# Altium footprint library SiLPA_HE.PcbLib: 129 footprints (part 4 of 9)
Each footprint in its own frame and in the unit in brackets; x right, y up, seen from the top. Pads: shape width x height; smd on the part's side, far side on the other; paste and mask are expansions set on the pad; w line width, h text height; cw(c..) or ccw(c..) is an arc to the next point about the centre after c.
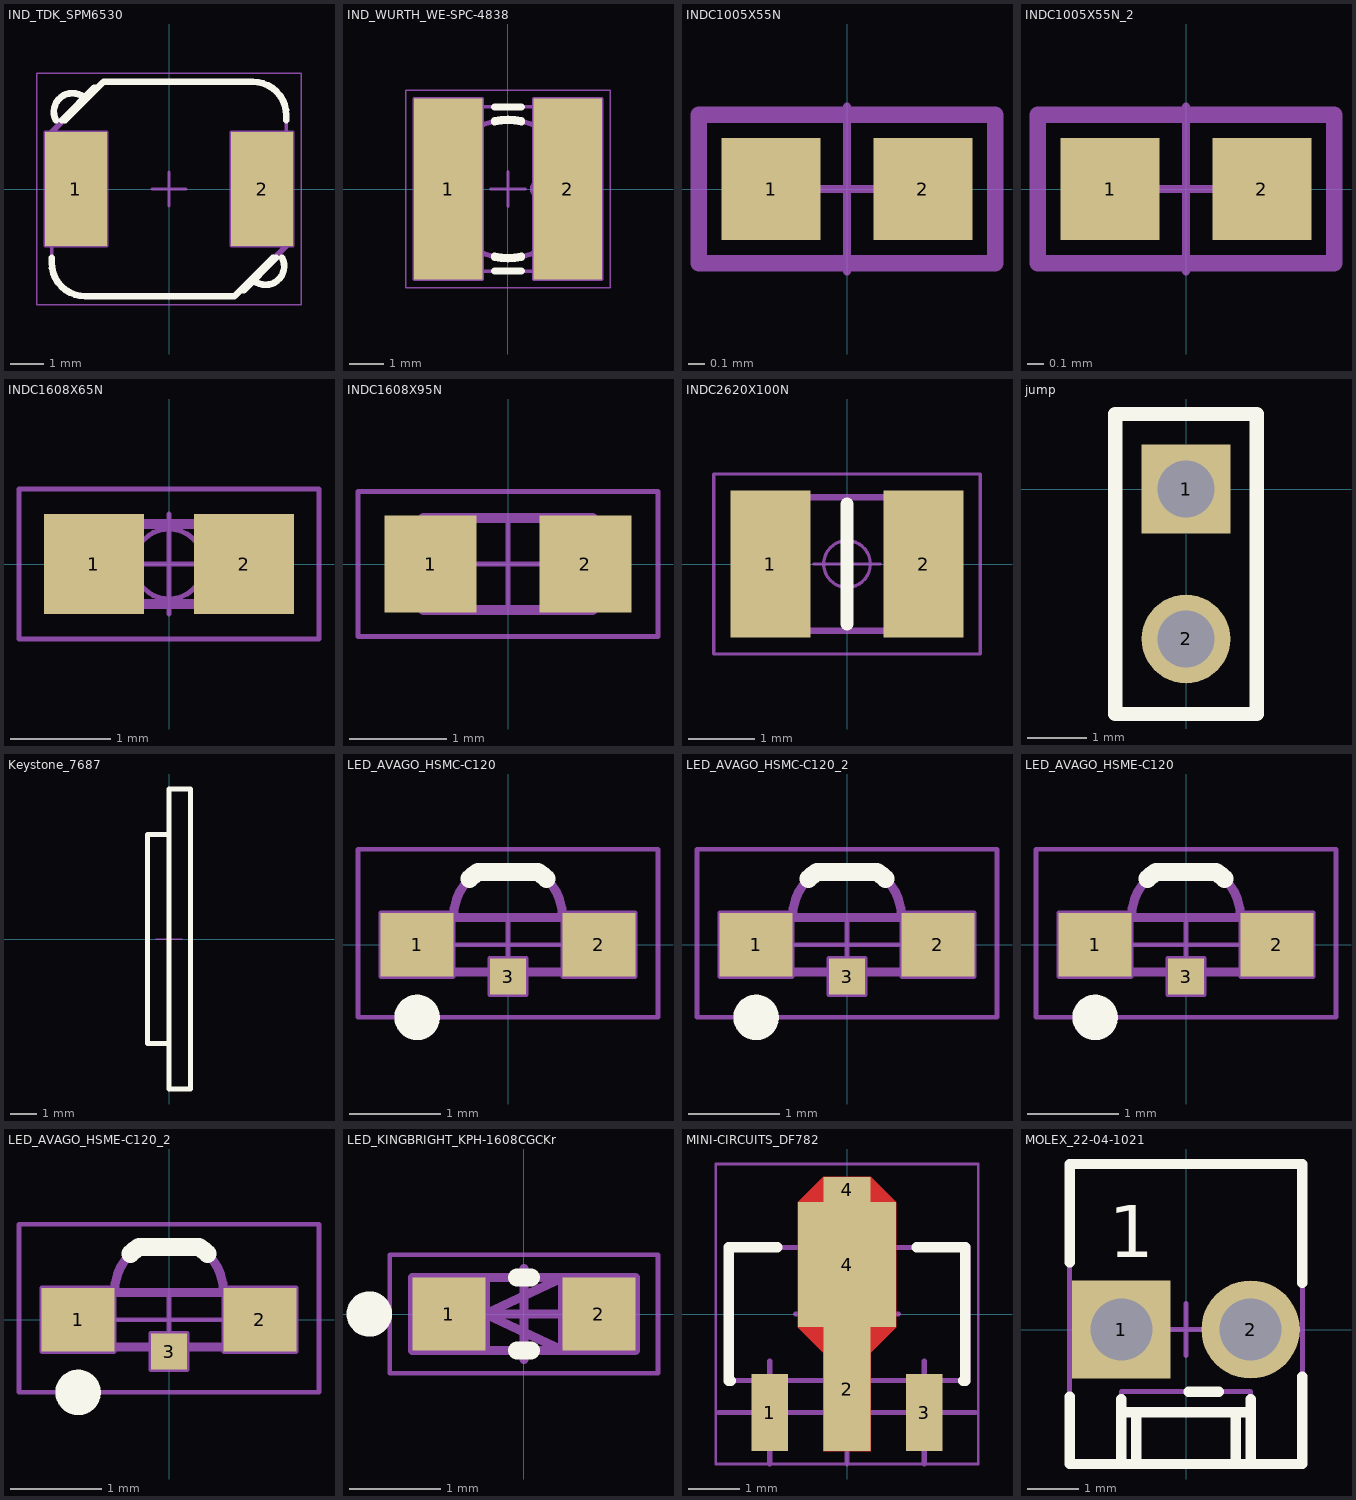
[diagram p3: the footprints below, top view; thin cyan lines are the x and y axes]

## IND_TDK_SPM6530 [mm] "SMD Inductor, 7.1mm L X 6.5mm W X 3mm H, TDK SPM6530 Series"
height 3
pads (2):
  rect 1.85x3.4 smd: 1(-2.775,0) 2(2.775,0)
Top Overlay:
  lines w0.2: -3.5,-2.05 -3.5,-2.2 ccw(c-2.5,-2.2) -2.5,-3.2 1.95,-3.2 3.1,-2.05 ; -3.373,2.05 cw(c-2.883,2.307) -2.532,2.733 -2.524,2.726 ; -3.2,2.05 -2.227,3.023 -2.127,3.023 ; -3.1,2.05 -1.95,3.2 2.5,3.2 cw(c2.5,2.2) 3.5,2.2 3.5,2.05 ; 2.127,-3.023 2.227,-3.023 3.2,-2.05 ; 2.524,-2.726 2.532,-2.733 ccw(c2.883,-2.307) 3.373,-2.05
Mechanical 8:
  lines w0.1: -3.275,0 -2.775,0 ; -2.775,-0.5 -2.775,0 ; -2.775,0.5 -2.775,0 ; -2.275,0 -2.775,0 ; -0.5,0 0,0 ; 0,-0.5 0,0 ; 0,0.5 0,0 ; 0.5,0 0,0 ; 2.275,0 2.775,0 ; 2.775,-0.5 2.775,0 ; 2.775,0.5 2.775,0 ; 3.275,0 2.775,0 ; -3.7,-1.7 -1.85,-1.7 -1.85,1.7 -3.7,1.7 -3.7,-1.7 ; 1.85,-1.7 1.85,1.7 3.7,1.7 3.7,-1.7 1.85,-1.7
Mechanical 14:
  lines w0.1: -3.5,-1.6 -3.6,-1.6 -3.6,1.65 ; -3.302,1.948 -3.309,1.955 cw(c-2.883,2.307) -2.532,2.733 -2.524,2.726 ; -2.127,3.023 -2.227,3.023 -3.6,1.65 ; 2.127,-3.023 2.227,-3.023 3.6,-1.65 ; 2.524,-2.726 2.532,-2.733 ccw(c2.883,-2.307) 3.309,-1.955 3.302,-1.948 ; 3.5,1.6 3.6,1.6 3.6,-1.65 ; -3.6,1.65 -3.5,1.65 ; -3.5,1.65 -3.5,0.9 -2.564,0.9 -2.564,1 cw(c-2.295,1) -2.025,1 -2.025,-1 cw(c-2.295,-1) -2.564,-1 -2.564,-0.9 -3.5,-0.9 -3.5,-2.2 ccw(c-2.5,-2.2) -2.5,-3.2 1.95,-3.2 3.5,-1.65 ; -3.5,1.65 -1.95,3.2 2.5,3.2 cw(c2.5,2.2) 3.5,2.2 3.5,0.9 2.564,0.9 2.564,1 ccw(c2.295,1) 2.025,1 2.025,-1 ccw(c2.295,-1) 2.564,-1 2.564,-0.9 3.5,-0.9 3.5,-1.65 ; 3.5,-1.65 3.6,-1.65
Mechanical 15:
  lines w0.05: -3.95,-3.45 -3.95,3.45 3.95,3.45 3.95,-3.45 -3.95,-3.45
3D body "IND_TDK_SPM6530.stp": height 3.1, standoff 0, extent -3.6,-3.2 3.6,3.2

## IND_WURTH_WE-SPC-4838 [mm] "SMD Inductor, Body 4.8x4.8mm"
height 9.1
pads (2):
  rect 2x5.3 smd: 1(-1.75,0) 2(1.75,0)
Top Overlay:
  lines w0.2: -0.4,-2.41 0.4,-2.41 ; -0.4,-2.011 ccw(c0,0) 0.4,-2.011 ; -0.4,-1.96 ccw(c0,0) 0.4,-1.96 ; -0.4,1.96 cw(c0,0) 0.4,1.96 ; -0.4,2.011 cw(c0,0) 0.4,2.011 ; -0.4,2.41 0.4,2.41
Mechanical 8:
  lines w0.1: -2.25,0 -1.75,0 ; -1.75,-0.5 -1.75,0 ; -1.75,0.5 -1.75,0 ; -1.25,0 -1.75,0 ; -0.5,0 0,0 ; 0,-0.5 0,0 ; 0,0.5 0,0 ; 0.5,0 0,0 ; 1.25,0 1.75,0 ; 1.75,-0.5 1.75,0 ; 1.75,0.5 1.75,0 ; 2.25,0 1.75,0 ; -2.75,-2.65 -2.75,2.65 -0.75,2.65 -0.75,-2.65 -2.75,-2.65 ; 0.75,-2.65 0.75,2.65 2.75,2.65 2.75,-2.65 0.75,-2.65
Mechanical 14:
  circle w0.1: c0.944,0 r0.25
  circle w0.1: c0,0 r2.05
  lines w0.1: -2.41,-2.21 ccw(c-2.21,-2.21) -2.21,-2.41 1.2,-2.41 ccw(c1.2,-1.9) 1.671,-2.096 cw(c2.4,-2.4) 2.096,-1.671 ccw(c1.9,-1.2) 2.41,-1.2 2.41,2.21 ccw(c2.21,2.21) 2.21,2.41 -1.2,2.41 ccw(c-1.2,1.9) -1.671,2.096 cw(c-2.4,2.4) -2.096,1.671 ccw(c-1.9,1.2) -2.41,1.2 -2.41,-2.21 ; -1.751,-0.966 cw(c0,0) 0.966,1.751 cw(c0.869,1.576) 1.011,1.435 ccw(c1.202,1.203) 1.414,0.99 cw(c1.575,0.867) 1.751,0.966 cw(c0,0) -0.966,-1.751 cw(c-0.867,-1.575) -0.99,-1.414 ccw(c-1.202,-1.202) -1.414,-0.99 cw(c-1.575,-0.867) -1.751,-0.966
Mechanical 15:
  lines w0.05: -3,-2.9 -3,2.9 3,2.9 3,-2.9 -3,-2.9
3D body "IND_WURTH_WE-SPC-4838.stp": height 3.81, standoff 0, extent -2.41,-2.41 2.41,2.41

## INDC1005X55N [mm] "Chip Inductor, 2-Leads, EIA 0402, Metric 1005, Body 1x0.5mm, 0402IPC Medium Density"
height 0.55
pads (2):
  rect 0.6x0.62 smd: 1(-0.46,0) 2(0.46,0)
Mechanical 14:
  lines w0.1: -0.9,-0.45 0.9,-0.45 0.9,0.45 -0.9,0.45 -0.9,-0.45
Mechanical 15:
  lines w0.05: -0.5,0 0.5,0 ; 0,-0.5 0,0.5 ; -0.91,-0.46 0.91,-0.46 0.91,0.46 -0.91,0.46 -0.91,-0.46
3D body "INDC1005X55N.stp": height 0.55, standoff 0, extent -0.525,-0.275 0.525,0.275

## INDC1005X55N_2 [mm]
pads (2):
  rect 0.6x0.62 smd: 1(-0.46,0) 2(0.46,0)
Mechanical 14:
  lines w0.1: -0.9,-0.45 0.9,-0.45 0.9,0.45 -0.9,0.45 -0.9,-0.45
Mechanical 15:
  lines w0.05: -0.5,0 0.5,0 ; 0,-0.5 0,0.5 ; -0.91,-0.46 0.91,-0.46 0.91,0.46 -0.91,0.46 -0.91,-0.46
3D body "INDC1005X55N.stp": height 0.55, standoff 0, extent -0.525,-0.275 0.525,0.275

## INDC1608X65N [mm] "Chip Inductor, 2-Leads, EIA 0603, Metric 1608, Body 1.6x0.8mm, IPC Medium Density"
height 0.65
pads (2):
  rect 1x1 smd: 1(-0.75,0) 2(0.75,0)
Mechanical 14:
  lines w0.1: -0.8,-0.4 0.8,-0.4 0.8,0.4 -0.8,0.4 -0.8,-0.4
Mechanical 15:
  circle w0.05: c0,0 r0.35
  lines w0.05: -0.5,0 0.5,0 ; 0,-0.5 0,0.5 ; -1.5,-0.75 1.5,-0.75 1.5,0.75 -1.5,0.75 -1.5,-0.75
3D body "INDC1608X65N.stp": height 0.65, standoff 0, extent -0.875,-0.475 0.875,0.475

## INDC1608X95N [mm] "Chip Inductor, 2-Leads, EIA 0603, Metric 1608, Body 1.6x0.8mm, IPC Medium Density"
height 0.95
pads (2):
  rect 0.95x1 smd: 1(-0.8,0) 2(0.8,0)
Mechanical 14:
  lines w0.1: -0.875,-0.475 -0.875,0.475 0.875,0.475 0.875,-0.475 -0.875,-0.475
Mechanical 15:
  lines w0.05: -0.5,0 0.5,0 ; 0,-0.5 0,0.5 ; -1.55,-0.75 -1.55,0.75 1.55,0.75 1.55,-0.75 -1.55,-0.75
3D body "INDC1608X95N.stp": height 0.95, standoff -0.05, extent -0.875,-0.475 0.875,0.475

## INDC2620X100N [mm] "Chip Inductor, EIA 1008, Metric 2520, Body 2.60mm L X 2.00mm W X 1.00mm H, IPC Medium Density"
height 1
pads (2):
  rect 1.2x2.2 smd: 1(-1.15,0) 2(1.15,0)
Top Overlay:
  lines w0.2: 0,-0.9 0,0.9
Mechanical 14:
  lines w0.1: -1.3,-1 -1.3,1 1.3,1 1.3,-1 -1.3,-1
Mechanical 15:
  circle w0.05: c0,0 r0.35
  lines w0.05: -0.5,0 0.5,0 ; 0,-0.5 0,0.5 ; -2,-1.35 -2,1.35 2,1.35 2,-1.35 -2,-1.35
3D body "INDC2620X100N.stp": height 1, standoff 0, extent -1.3,-1 1.3,1

## jump [mm]
height 4.35
pads (2):
  rect 1.5x1.5 hole 0.965: 1(0,0)
  round 1.5 hole 0.965: 2(0,-2.54)
Top Overlay:
  lines w0.245: -1.2,-3.81 1.2,-3.81 1.2,1.27 -1.2,1.27 -1.2,-3.81
3D body "COMATEL_385.0358.1.02.400.stp": height 8, standoff -3.2, extent -1.256,-3.835 1.194,1.245

## Keystone_7687 [mm] "Polyphenylene Sulfide PPS Shoulder Washer"
height 8
Top Overlay:
  lines w0.2: 0,-3.9 -0.8,-3.9 -0.8,3.9 0,3.9 ; 0,-5.6 0.8,-5.6 0.8,5.6 0,5.6 0,-5.6
Mechanical 8:
  lines w0.05: -0.5,0 0,0 ; 0,-0.5 0,0 ; 0,0.5 0,0 ; 0.5,0 0,0
Mechanical 14:
  lines w0.1: 0,-3.9 -0.8,-3.9 -0.8,3.9 0,3.9 ; 0,-5.6 0.8,-5.6 0.8,5.6 0,5.6 0,-5.6

## LED_AVAGO_HSMC-C120 [mm] "Red Chip LED, 2-Leads, Body 1.7x1.1mm, Side Emitting Package"
height 0.7
pads (3):
  rect 0.8x0.7 smd: 1(-1,0) 2(1,0)
  rect 0.4x0.4 smd: 3(0,-0.35)
Top Overlay:
  circle w0.25: c-1,-0.8 r0.125
  lines w0.2: -0.424,0.724 cw(c0,0.3) -0.332,0.8 0.332,0.8 cw(c0,0.3) 0.424,0.724
Mechanical 8:
  lines w0.05: -1,0 1,0 ; 0,-0.35 0,0 ; -1.4,-0.35 -1.4,0.35 -0.6,0.35 -0.6,-0.35 -1.4,-0.35 ; -0.2,-0.55 0.2,-0.55 0.2,-0.15 -0.2,-0.15 -0.2,-0.55 ; 0.6,-0.35 0.6,0.35 1.4,0.35 1.4,-0.35 0.6,-0.35
Mechanical 14:
  lines w0.1: -0.6,0.3 cw(c0,0.3) -0.332,0.8 0.332,0.8 cw(c0,0.3) 0.6,0.3 ; -0.85,-0.3 0.85,-0.3 0.85,0.3 -0.85,0.3 -0.85,-0.3
Mechanical 15:
  lines w0.05: -0.3,0 0.3,0 ; 0,-0.3 0,0.3 ; -1.65,-0.8 -1.65,1.05 1.65,1.05 1.65,-0.8 -1.65,-0.8
3D body "LED_AVAGO_HSMC-C120.stp": height 0.7, standoff 0, extent -0.85,-0.3 0.85,0.8

## LED_AVAGO_HSMC-C120_2 [mm]
pads (3):
  rect 0.8x0.7 smd: 1(-1,0) 2(1,0)
  rect 0.4x0.4 smd: 3(0,-0.35)
Top Overlay:
  circle w0.25: c-1,-0.8 r0.125
  lines w0.2: -0.424,0.724 cw(c0,0.3) -0.332,0.8 0.332,0.8 cw(c0,0.3) 0.424,0.724
Mechanical 8:
  lines w0.05: -1,0 1,0 ; 0,-0.35 0,0 ; -1.4,-0.35 -0.6,-0.35 -0.6,0.35 -1.4,0.35 -1.4,-0.35 ; -0.2,-0.55 -0.2,-0.15 0.2,-0.15 0.2,-0.55 -0.2,-0.55 ; 0.6,-0.35 1.4,-0.35 1.4,0.35 0.6,0.35 0.6,-0.35
Mechanical 14:
  lines w0.1: -0.6,0.3 cw(c0,0.3) -0.332,0.8 0.332,0.8 cw(c0,0.3) 0.6,0.3 ; -0.85,-0.3 -0.85,0.3 0.85,0.3 0.85,-0.3 -0.85,-0.3
Mechanical 15:
  lines w0.05: -0.3,0 0.3,0 ; 0,-0.3 0,0.3 ; -1.65,-0.8 1.65,-0.8 1.65,1.05 -1.65,1.05 -1.65,-0.8
3D body "LED_AVAGO_HSMC-C120.stp": height 0.7, standoff 0, extent -0.85,-0.3 0.85,0.8

## LED_AVAGO_HSME-C120 [mm] "Green Chip LED, 2-Leads, Body 1.7x1.1mm, Side Emitting Package"
height 0.7
pads (3):
  rect 0.8x0.7 smd: 1(-1,0) 2(1,0)
  rect 0.4x0.4 smd: 3(0,-0.35)
Top Overlay:
  circle w0.25: c-1,-0.8 r0.125
  lines w0.2: -0.424,0.724 cw(c0,0.3) -0.332,0.8 0.332,0.8 cw(c0,0.3) 0.424,0.724
Mechanical 8:
  lines w0.05: -1,0 1,0 ; 0,-0.35 0,0 ; -1.4,-0.35 -0.6,-0.35 -0.6,0.35 -1.4,0.35 -1.4,-0.35 ; -0.2,-0.55 -0.2,-0.15 0.2,-0.15 0.2,-0.55 -0.2,-0.55 ; 0.6,-0.35 1.4,-0.35 1.4,0.35 0.6,0.35 0.6,-0.35
Mechanical 14:
  lines w0.1: -0.6,0.3 cw(c0,0.3) -0.332,0.8 0.332,0.8 cw(c0,0.3) 0.6,0.3 ; -0.85,-0.3 -0.85,0.3 0.85,0.3 0.85,-0.3 -0.85,-0.3
Mechanical 15:
  lines w0.05: -0.3,0 0.3,0 ; 0,-0.3 0,0.3 ; -1.65,-0.8 1.65,-0.8 1.65,1.05 -1.65,1.05 -1.65,-0.8
3D body "LED_AVAGO_HSME-C120.stp": height 0.7, standoff 0, extent -0.85,-0.3 0.85,0.8

## LED_AVAGO_HSME-C120_2 [mm]
pads (3):
  rect 0.8x0.7 smd: 1(-1,0) 2(1,0)
  rect 0.4x0.4 smd: 3(0,-0.35)
Top Overlay:
  circle w0.25: c-1,-0.8 r0.125
  lines w0.2: -0.424,0.724 cw(c0,0.3) -0.332,0.8 0.332,0.8 cw(c0,0.3) 0.424,0.724
Mechanical 8:
  lines w0.05: -1,0 1,0 ; 0,-0.35 0,0 ; -1.4,-0.35 -1.4,0.35 -0.6,0.35 -0.6,-0.35 -1.4,-0.35 ; -0.2,-0.55 0.2,-0.55 0.2,-0.15 -0.2,-0.15 -0.2,-0.55 ; 0.6,-0.35 0.6,0.35 1.4,0.35 1.4,-0.35 0.6,-0.35
Mechanical 14:
  lines w0.1: -0.6,0.3 cw(c0,0.3) -0.332,0.8 0.332,0.8 cw(c0,0.3) 0.6,0.3 ; -0.85,-0.3 0.85,-0.3 0.85,0.3 -0.85,0.3 -0.85,-0.3
Mechanical 15:
  lines w0.05: -0.3,0 0.3,0 ; 0,-0.3 0,0.3 ; -1.65,-0.8 -1.65,1.05 1.65,1.05 1.65,-0.8 -1.65,-0.8
3D body "LED_AVAGO_HSME-C120.stp": height 0.7, standoff 0, extent -0.85,-0.3 0.85,0.8

## LED_KINGBRIGHT_KPH-1608CGCKr [mm] "SMT Green LED, Case 0603, Body L 1.6 x W 0.8mm H 0.65mm"
height 0.65
pads (2):
  rect 0.8x0.8 smd: 1(-0.825,0) 2(0.825,0)
Top Overlay:
  circle w0.25: c-1.7,0 r0.125
  lines w0.2: -0.075,-0.4 0.075,-0.4 ; -0.075,0.4 0.075,0.4
Mechanical 8:
  lines w0.1: -0.5,0 0,0 ; -0.425,0 0.425,0 ; 0,-0.5 0,0 ; 0,0.5 0,0 ; 0.5,0 0,0 ; -0.425,-0.4 -0.825,0 -0.425,0.4 ; -0.425,-0.4 -0.425,0.4 ; -0.425,-0.4 -1.225,-0.4 -1.225,0.4 -0.425,0.4 ; 1.225,-0.4 0.825,0 1.225,0.4 ; 1.225,-0.4 1.225,0.4 ; 1.225,-0.4 0.425,-0.4 0.425,0.4 1.225,0.4
Mechanical 14:
  lines w0.1: -0.8,-0.4 0.8,-0.4 0.8,0.4 -0.8,0.4 -0.8,-0.4 ; -0.425,0 0.425,-0.4 0.425,0.4 -0.425,0
Mechanical 15:
  lines w0.05: -1.475,-0.65 1.475,-0.65 1.475,0.65 -1.475,0.65 -1.475,-0.65
3D body "LED_KINGBRIGHT_KPH-1608CGCK_Part2.stp": height 0.65, standoff 0.12, extent -0.6,-0.4 0.6,0.4
3D body "LED_KINGBRIGHT_KPH-1608CGCK_Part1.stp": height 0.2, standoff 0, extent -0.8,-0.4 0.8,0.4

## MINI-CIRCUITS_DF782 [mm] "MINI-CIRCUITS DF782 Case, 1.50mm pitch; 4 pin, 2.44mm W X 4.49mm L"
height 1.6
pads (5):
  rect 0.71x1.5 smd: 1(-1.5,-1.915) 3(1.5,-1.915)
  rect 0.917x2.41 smd: 2(0,-1.46)
  rect 1.905x2.427 smd: 4(0,0.958)
  rect 0.92x0.493 smd: 4(0,2.418)
Top Layer:
  region: -0.457,-0.751 -0.953,-0.255 -0.953,2.172 -0.46,2.665 0.46,2.665 0.953,2.172 0.953,-0.255 0.457,-0.751 0.457,-2.665 -0.457,-2.665
Top Overlay:
  lines w0.2: -2.255,-1.295 -2.3,-1.295 -2.3,1.295 -1.353,1.295 ; 1.353,1.295 2.3,1.295 2.3,-1.295 2.255,-1.295
Top Paste:
  region: -0.457,-0.751 -0.953,-0.255 -0.953,2.172 -0.46,2.665 0.46,2.665 0.953,2.172 0.953,-0.255 0.457,-0.751 0.457,-2.665 -0.457,-2.665
Top Solder:
  region: -0.457,-0.751 -0.953,-0.255 -0.953,2.172 -0.46,2.665 0.46,2.665 0.953,2.172 0.953,-0.255 0.457,-0.751 0.457,-2.665 -0.457,-2.665
Mechanical 8:
  lines w0.1: -1.5,-2.915 -1.5,-1.915 ; -1.5,-0.915 -1.5,-1.915 ; -1,0 0,0 ; 0,-2.915 0,-1.915 0,-0.915 ; 0,-1 0,0 ; 0,1 0,0 ; 1,0 0,0 ; 1.5,-2.915 1.5,-1.915 ; 1.5,-0.915 1.5,-1.915 ; 2.5,-1.915 1.5,-1.915 ; -1.5,-1.915 1.5,-1.915 ; -1.5,-1.915 -2.5,-1.915 -1.5,-1.915
Mechanical 14:
  lines w0.1: -1.705,-1.302 -1.705,-2.12 -1.295,-2.12 -1.295,-1.302 ; -0.825,1.295 -0.825,1.745 -0.45,2.12 0.45,2.12 0.825,1.745 0.825,1.295 ; -0.205,-1.302 -0.205,-2.12 0.205,-2.12 0.205,-1.302 ; 1.295,-1.302 1.295,-2.12 1.705,-2.12 1.705,-1.302 ; 2.3,-1.295 -2.3,-1.295 -2.3,1.295 2.3,1.295
  lines w0.2: 2.3,-1.295 2.3,1.295
Mechanical 15:
  lines w0.05: -2.55,-2.915 -2.55,2.915 2.55,2.915 2.55,-2.915 -2.55,-2.915
3D body "MINI-CIRCUITS_DF782.stp": height 1.6, standoff 0, extent -2.3,-2.12 2.3,2.12

## MOLEX_22-04-1021 [mm] "2.5mm (.100\") Pitch KK® Header, Single Row, Vertical, 2 Circuits"
height 11.7
pads (2):
  rect 1.9x1.9 hole 1.2: 1(-1.25,0)
  round 1.9 hole 1.2: 2(1.25,0)
Top Overlay:
  lines w0.2: -2.25,-1.3 -2.25,-2.6 2.25,-2.6 2.25,-0.907 ; -2.25,1.3 -2.25,3.2 2.25,3.2 2.25,0.907 ; -1.25,-2.6 -1.25,-1.35 ; -1.25,-1.6 1.25,-1.6 ; -0.959,-2.6 -0.959,-1.6 ; 0.05,-1.2 0.632,-1.2 ; 0.959,-2.6 0.959,-1.6 ; 1.25,-2.6 1.25,-1.35
  text "1" at -1.49,1.397 h1
Mechanical 8:
  lines w0.1: -1.75,0 -1.25,0 ; -1.25,-0.5 -1.25,0 ; -1.25,0.5 -1.25,0 ; -0.75,0 -1.25,0 ; -0.5,0 0,0 ; 0,-0.5 0,0 ; 0,0.5 0,0 ; 0.5,0 0,0 ; 0.75,0 1.25,0 ; 1.25,-0.5 1.25,0 ; 1.25,0.5 1.25,0 ; 1.75,0 1.25,0
Mechanical 14:
  lines w0.1: -1.25,-2.6 -1.25,-1.2 1.25,-1.2 1.25,-2.6 ; -1.25,-1.6 1.25,-1.6 ; -0.959,-2.6 -0.959,-1.6 ; 0.959,-2.6 0.959,-1.6 ; -2.25,-2.6 2.25,-2.6 2.25,3.2 -2.25,3.2 -2.25,-2.6 ; -1.568,-0.318 -0.933,-0.318 -0.933,0.318 -1.568,0.318 -1.568,-0.318 ; 0.933,-0.318 0.933,0.318 1.568,0.318 1.568,-0.318 0.933,-0.318
  text "1" at -1.49,1.397 h1
3D body "MOLEX_22-04-1021.stp": height 11.7, standoff -3.4, extent -2.25,-2.6 2.25,3.2